# Altium footprint library THT_Electrolytic_Cap_Pcb.PcbLib: 2 footprints
Each footprint in its own frame and in the unit in brackets; x right, y up, seen from the top. Pads: shape width x height; smd on the part's side, far side on the other; paste and mask are expansions set on the pad; w line width, h text height; cw(c..) or ccw(c..) is an arc to the next point about the centre after c.
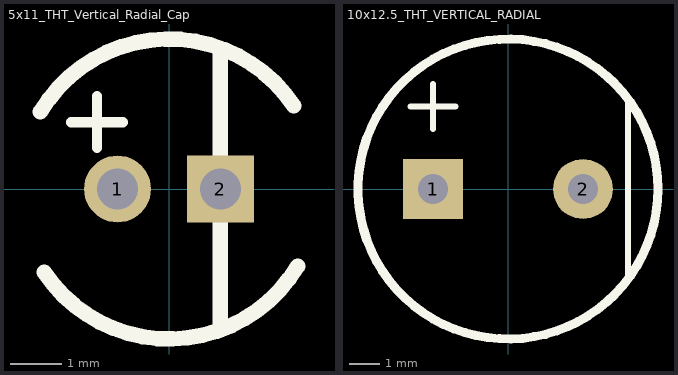
[diagram p0: the footprints below, top view; thin cyan lines are the x and y axes]

## 5x11_THT_Vertical_Radial_Cap [mm]
pads (2):
  round 1.3 hole 0.8: 1(-1,0)
  rect 1.3x1.3 hole 0.8: 2(1,0)
Top Overlay:
  lines w0.2: -1.9,1.3 -0.9,1.3 ; -1.4,0.8 -1.4,1.8
  lines w0.3: -2.5,1.5 cw(c0,0) 2.426,1.617 ; -2.426,-1.617 ccw(c0,0) 2.5,-1.5 ; 1,-2.7 1,2.7
3D body "Cap electrolitic radial 5x11.STEP": height 11.8, standoff -0.7, extent -2.499,-2.497 2.499,2.5

## 10x12.5_THT_VERTICAL_RADIAL [mm]
pads (2):
  rect 2x2 hole 1: 1(-2.5,0)
  round 2 hole 1: 2(2.5,0)
Top Overlay:
  circle w0.3: c0,0 r5
  lines w0.2: -3.25,2.75 -1.75,2.75 ; -2.5,2 -2.5,3.5 ; 4,-2.9 4,2.9
3D body "Cap electroliytic radial 10x12_5.STEP": height 12.71, standoff -2.69, extent -5.08,-5.078 5.08,5.079